# Altium footprint library XT60UPB-F.PcbLib: 1 footprints
Each footprint in its own frame and in the unit in brackets; x right, y up, seen from the top. Pads: shape width x height; smd on the part's side, far side on the other; paste and mask are expansions set on the pad; w line width, h text height; cw(c..) or ccw(c..) is an arc to the next point about the centre after c.
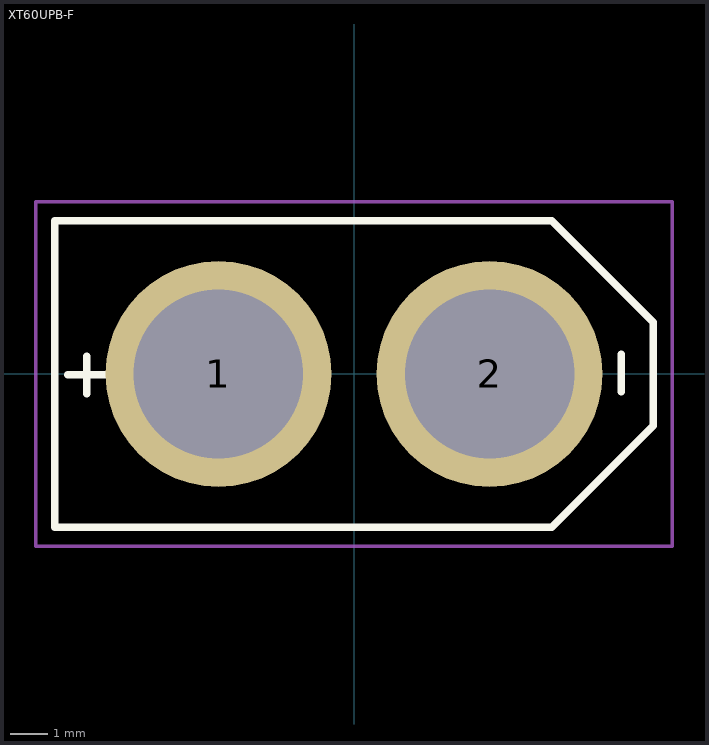
[diagram p0: the footprint, top view; thin cyan lines are the x and y axes]

## XT60UPB-F [mm]
pads (2):
  round 6 hole 4.5: 1(-3.6,0) 2(3.6,0)
Top Overlay:
  lines w0.2: -7.6,-0.025 -6.6,-0.025 ; -7.1,-0.525 -7.1,0.475 ; 7.1,-0.475 7.1,0.525 ; -7.95,-4.075 -7.95,4.075 5.25,4.075 7.95,1.375 7.95,-1.375 5.25,-4.075 -7.95,-4.075
Top Courtyard:
  lines w0.1: -8.45,-4.575 -8.45,4.575 8.45,4.575 8.45,-4.575 -7.95,-4.575 -8.45,-4.575
3D body "User Library-XT60 female.step": height 17.2, standoff -5, extent -7.95,-4.075 7.95,4.075